# Altium schematic symbol library Capacitors.SchLib: 12 symbols
Pins are listed as number, name and electrical type; pins without a type are passive.

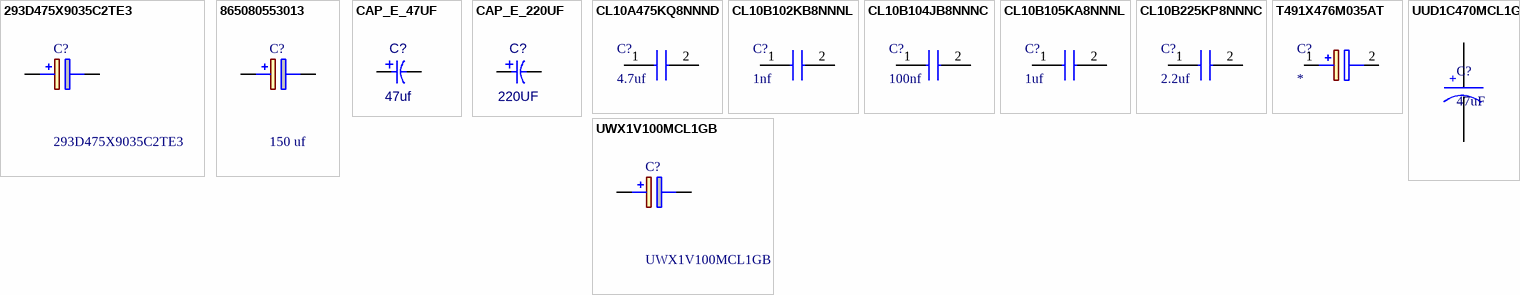
[diagram p0: symbols 293D475X9035C2TE3 to UWX1V100MCL1GB]

## 293D475X9035C2TE3
designator C?
Solid Tantalum Surface Mount Chip Capacitors TANTAMOUNT(TM), Molded Case, Standard Industrial Grade; Manufacturer_Name: Vishay; Geometry.Height: 2.8mm; Mouser Part Number: 74-293D475X9035C2TE3; Mouser Price/Stock: https://www.mouser.co.uk/ProductDetail/Vishay-Sprague/293D475X9035C2TE3?qs=L4BSZja3YaK5uiX7PSIEuA%3D%3D; Manufacturer_Part_Number: 293D475X9035C2TE3; Datasheet Link: http://www.vishay.com/docs/40002/293d.pdf
footprint CAPPM6032X280N
pins: 1 +, 2 -

## 865080553013
designator C?, comment 150 uf
Wurth Elektronik 150uF 35 V dc Aluminium Electrolytic Capacitor, WCAP-ASLI Series 2000h 8 (Dia.) x 10.35mm; Manufacturer_Part_Number: 865080553013; Geometry.Height: 10.5mm; Mouser Part Number: 710-865080553013; Mouser Price/Stock: https://www.mouser.co.uk/ProductDetail/Wurth-Elektronik/865080553013?qs=0KOYDY2FL29Thrvp1T0nKg%3D%3D; Manufacturer_Name: Wurth Elektronik; Datasheet Link: https://www.we-online.com/catalog/datasheet/865080553013.pdf
footprint CAPAE830X1050N
pins: 1 +, 2 -

## CAP_E_47UF
designator C?  value 47uf
CAP_E_47UF; Part Number: UUR1V470MCL1GS; Manufacturer: Nichicon; Supplier: Mouser; Supplier #: 647-UUR1V470MCL1GS; Cost: 0.08
footprint CASE_D_NICHICON
pins: 1, 2

## CAP_E_220UF
designator C?  value 220UF
CAP_E_220UF; Part Number: UUX1E221MNL1GS; Manufacturer: Nichicon; Supplier: Mouser; Supplier #: 647-UUX1E221MNL1GS; Cost: .13
footprint CASE_E_NICHICON
pins: 1 +, 2 -

## CL10A475KQ8NNND
designator C?, comment 4.7uf
Samsung Electro-Mechanics 0603 4.7uf
footprint 0603
pins: 1, 2

## CL10B102KB8NNNL
designator C?, comment 1nf
Samsung Electro-Mechanics 0603 1nf
footprint 0603
pins: 1, 2

## CL10B104JB8NNNC
designator C?, comment 100nf
Samsung Electro-Mechanics 0603 100nf
footprint 0603
pins: 1, 2

## CL10B105KA8NNNL
designator C?, comment 1uf
Samsung Electro-Mechanics 0603 1uf
footprint 0603
pins: 1, 2

## CL10B225KP8NNNC
designator C?, comment 2.2uf
Samsung Electro-Mechanics 0603 2.2uf
footprint 0603
pins: 1, 2

## T491X476M035AT
designator C?
Capacitor Polarised; Manufacturer_Name: KEMET; Manufacturer_Part_Number: T491X476M035AT; Datasheet Link: https://content.kemet.com/datasheets/KEM_T2005_T491.pdf; Height: 4.3mm; Mouser Part Number: 80-T491X476M035; Mouser Price/Stock: https://www.mouser.co.uk/ProductDetail/KEMET/T491X476M035AT?qs=4FCPi%2FOINq3087%2FNdgtyvg%3D%3D; Arrow Part Number: T491X476M035AT; Arrow Price/Stock: https://www.arrow.com/en/products/t491x476m035at/kemet-corporation?region=nac
footprint T491X
pins: 1 +, 2 -

## UUD1C470MCL1GS
designator C?, comment 47uF
CAP ALUM 47UF 20% 16V SMD; Manufacturer: Nichicon; Manufacturer Part Number: UUD1C470MCL1GS; Dielectric Material: Aluminium; Ripple Current: 230mA; Impedance: 440mR; Leakage Current: 3uA; Life (Hours): 2000Hour; Dissipation Factor: 0.2%; Lead Diameter: 0.8mm; Supplier 1: Digi-Key; RoHS: Yes; Category: Aluminum Electrolytic Capacitors; Stock 1: 26327; Pricing 1: 1=0.50000, 10=0.34600, 50=0.24220, 100=0.20760, 500=0.15568 (USD); Case/Package: Radial; Number of Pins: 2; Contact Plating: Tin; Min Operating Temperature: -55°C; Max Operating Temperature: 105°C; Tolerance: 20%; Capacitance: 47uF; Package Quantity: 1000; Voltage Rating (DC): 16V; Packaging: Tape and Reel; Voltage Rating: 16V; Ripple Current (AC): 230mA; Termination: SMD/SMT; Voltage: 16V; Diameter: 6.3mm; Length: 5.8mm; Height: 5.8mm; Lead Pitch: 2.2mm; Height - Seated (Max): 0.228inch; Radiation Hardening: No; REACH SVHC: No SVHC; Lead Free: Lead Free; ComponentLink1URL: https://datasheet.ciiva.com/30522/getdatasheetpartid-449848-30522051.pdf?src-supplier=Verical; ComponentLink1Description: https://datasheet.ciiva.com/30522/getdatasheetpartid-449848-30522051.pdf?src-supplier=Verical; ComponentLink2URL: https://datasheet.ciiva.com/96/e-ud-96997.pdf?src-supplier=Digi-Key; ComponentLink2Description: https://datasheet.ciiva.com/96/e-ud-96997.pdf?src-supplier=Digi-Key; ComponentLink3URL: https://datasheet.ciiva.com/11776/0900766b80fa39e7-11776889.pdf?src-supplier=RSComponents; ComponentLink3Description: https://datasheet.ciiva.com/11776/0900766b80fa39e7-11776889.pdf?src-supplier=RSComponents; ComponentLink4URL: https://datasheet.ciiva.com/96/e-ud-96998.pdf?src-supplier=Digi-Key; ComponentLink4Description: https://datasheet.ciiva.com/96/e-ud-96998.pdf?src-supplier=Digi-Key; ComponentLink5URL: https://datasheet.ciiva.com/96/e-ud-96999.pdf?src-supplier=Digi-Key; ComponentLink5Description: https://datasheet.ciiva.com/96/e-ud-96999.pdf?src-supplier=Digi-Key; ComponentLink6URL: https://datasheet.ciiva.com/11686/e-ud-11686236.pdf?src-supplier=Avnet; ComponentLink6Description: https://datasheet.ciiva.com/11686/e-ud-11686236.pdf?src-supplier=Avnet; ComponentLink7URL: https://datasheet.ciiva.com/16502/e-ud-16502750.pdf?src-supplier=Future+Electronics; ComponentLink7Description: https://datasheet.ciiva.com/16502/e-ud-16502750.pdf?src-supplier=Future+Electronics; ComponentLink8URL: https://datasheet.ciiva.com/7781/e-ud-7781695.pdf?src-supplier=Element14; ComponentLink8Description: https://datasheet.ciiva.com/7781/e-ud-7781695.pdf?src-supplier=Element14; Supplier Part Number 1: 493-2259-1-ND
footprint CapSMD_6.3x5.8
pins: 1, 2
text: +

## UWX1V100MCL1GB
designator C?
Aluminum Electrolytic Capacitors - SMD 35volts 10uF 5x5.4 20%; Manufacturer_Name: Nichicon; Geometry.Height: 5.5mm; Mouser Part Number: 647-UWX1V100MCL1; Mouser Price/Stock: https://www.mouser.co.uk/ProductDetail/Nichicon/UWX1V100MCL1GB?qs=kePmUQknH6GQipdjGtnAXA%3D%3D; Manufacturer_Part_Number: UWX1V100MCL1GB; Datasheet Link: http://www.nichicon.co.jp/english/products/pdfs/e-uwx.pdf
footprint CAPAE530X550N
pins: 1 +, 2 -